# EAGLE library part M907 (library dec-r)
M907 Diode Clamp
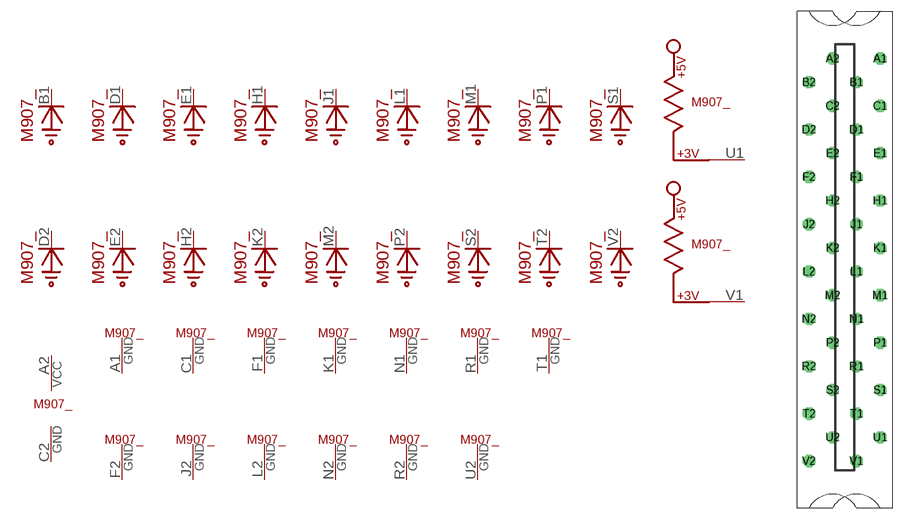
[diagram p32: symbol with the pads of H807; footprint H807]

Designator prefix M907_; gates A1=T1GND C1=T1GND F1=T1GND K1=T1GND N1=T1GND R1=T1GND T1=T1GND U1=PULL-UP U2=T1GND F2=T1GND J2=T1GND L2=T1GND N2=T1GND R2=T1GND B1=DIODECLAMP D1=DIODECLAMP E1=DIODECLAMP H1=DIODECLAMP J1=DIODECLAMP L1=DIODECLAMP M1=DIODECLAMP P1=DIODECLAMP S1=DIODECLAMP D2=DIODECLAMP E2=DIODECLAMP H2=DIODECLAMP K2=DIODECLAMP M2=DIODECLAMP P2=DIODECLAMP S2=DIODECLAMP T2=DIODECLAMP V2=DIODECLAMP V1=PULL-UP G$35=POWER

## M907  [H807]
A1  A1:GND  pwr
A2  G$35:VCC  pwr
B1  B1:CATHODE  pas
C1  C1:GND  pwr
C2  G$35:GND  pwr
D1  D1:CATHODE  pas
D2  D2:CATHODE  pas
E1  E1:CATHODE  pas
E2  E2:CATHODE  pas
F1  F1:GND  pwr
F2  F2:GND  pwr
H1  H1:CATHODE  pas
H2  H2:CATHODE  pas
J1  J1:CATHODE  pas
J2  J2:GND  pwr
K1  K1:GND  pwr
K2  K2:CATHODE  pas
L1  L1:CATHODE  pas
L2  L2:GND  pwr
M1  M1:CATHODE  pas
M2  M2:CATHODE  pas
N1  N1:GND  pwr
N2  N2:GND  pwr
P1  P1:CATHODE  pas
P2  P2:CATHODE  pas
R1  R1:GND  pwr
R2  R2:GND  pwr
S1  S1:CATHODE  pas
S2  S2:CATHODE  pas
T1  T1:GND  pwr
T2  T2:CATHODE  pas
U1  U1:P$1  pas
U2  U2:GND  pwr
V1  V1:P$1  pas
V2  V2:CATHODE  pas

## Footprint H807 (pad centres in mm)
One-wide female edge connector
drill 1.092 octagon: A1 4.763,28.575; A2 -1.587,28.575; B1 1.587,25.4; B2 -4.763,25.4; C1 4.763,22.225; C2 -1.587,22.225; D1 1.587,19.05; D2 -4.763,19.05; E1 4.763,15.875; E2 -1.587,15.875; F1 1.587,12.7; F2 -4.763,12.7; H1 4.763,9.525; H2 -1.587,9.525; J1 1.587,6.35; J2 -4.763,6.35; K1 4.763,3.175; K2 -1.587,3.175; L1 1.587,0; L2 -4.763,0; M1 4.763,-3.175; M2 -1.587,-3.175; N1 1.587,-6.35; N2 -4.763,-6.35; P1 4.763,-9.525; P2 -1.587,-9.525; R1 1.587,-12.7; R2 -4.763,-12.7; S1 4.763,-15.875; S2 -1.587,-15.875; T1 1.587,-19.05; T2 -4.763,-19.05; U1 4.763,-22.225; U2 -1.587,-22.225; V1 1.587,-25.4; V2 -4.763,-25.4